# Altium schematic symbol library SB10150TA.SchLib: 1 symbol
Pins are listed as number, name and electrical type; pins without a type are passive.

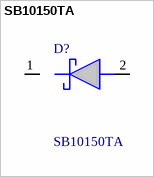
[diagram p0: symbol SB10150TA]

## SB10150TA
designator D?
SB10150 SCHOTTKY RECTIFIER; Manufacturer_Name: SMC Diode Solutions; Manufacturer_Part_Number: SB10150TA; Mouser Part Number: *; Mouser Price/Stock: *; Arrow Part Number: *; Arrow Price/Stock: *; Datasheet Link: http://www.smc-diodes.com/propdf/SB10150%20N0884%20REV.A.pdf
footprint DIOAD3020W130L900D530
pins: 1 K, 2 A